# Altium schematic symbol library vitech_modules.SchLib: 2 symbols
Pins are listed as number, name and electrical type; pins without a type are passive.

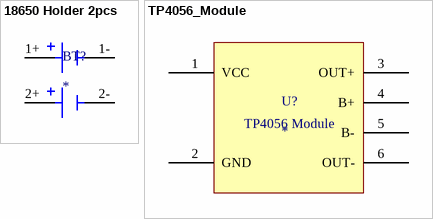
[diagram p0: symbols 18650 Holder 2pcs to TP4056_Module]

## 18650 Holder 2pcs
designator BT?
Battery Holder (Open) 18650 2 Cell PC Pin; MP: BK-18650-PC4; Price: None; Value: *; Package: None; Availability: Unavailable
footprint BAT_BK-18650-PC4 (Footprint not found)
pins: 1+, 1-, 2+, 2-

## TP4056_Module
designator U?
Зарядний модуль на TP4056 Type-C
footprint TP4056_Mod
pins: 1 VCC, 2 GND, 3 OUT+, 4 B+, 5 B-, 6 OUT-
text: TP4056 Module